# Altium footprint library TRANSFORMER.PcbLib: 1 footprints
Each footprint in its own frame and in the unit in brackets; x right, y up, seen from the top. Pads: shape width x height; smd on the part's side, far side on the other; paste and mask are expansions set on the pad; w line width, h text height; cw(c..) or ccw(c..) is an arc to the next point about the centre after c.
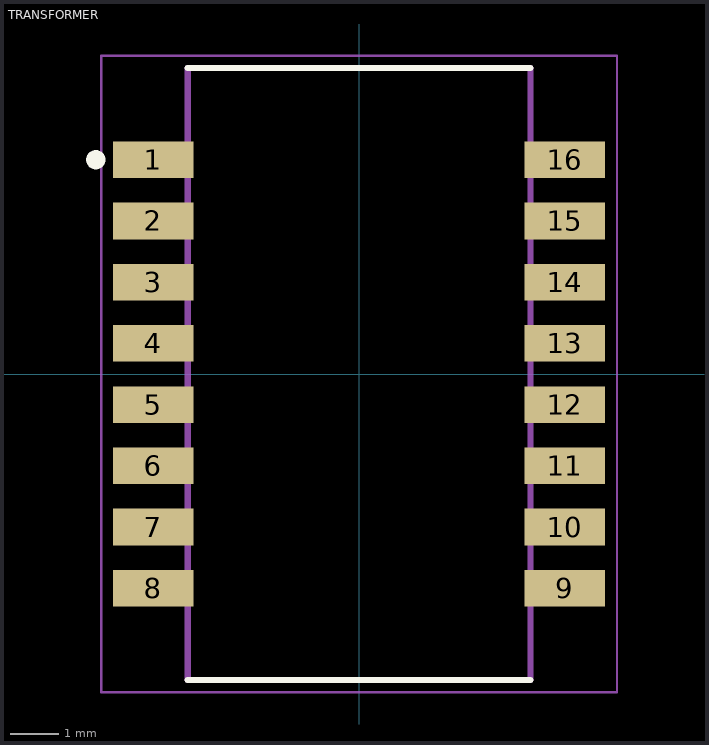
[diagram p0: the footprint, top view; thin cyan lines are the x and y axes]

## TRANSFORMER [mm]
pads (16):
  rect 1.67x0.76 smd: 1(-4.265,4.445) 2(-4.265,3.175) 3(-4.265,1.905) 4(-4.265,0.635) 5(-4.265,-0.635) 6(-4.265,-1.905) 7(-4.265,-3.175) 8(-4.265,-4.445) 9(4.265,-4.445) 10(4.265,-3.175) 11(4.265,-1.905) 12(4.265,-0.635) 13(4.265,0.635) 14(4.265,1.905) 15(4.265,3.175) 16(4.265,4.445)
Top Overlay:
  circle w0.2: c-5.461,4.445 r0.1
  lines w0.127: -3.555,-6.35 3.555,-6.35 ; -3.555,6.35 3.555,6.35
Mechanical 4:
  lines w0.127: -3.555,-6.35 -3.555,6.35 ; -3.555,-6.35 3.555,-6.35 ; -3.555,-6.35 -3.555,6.35 ; -3.555,-6.35 3.555,-6.35 ; -3.555,6.35 3.555,6.35 ; -3.555,6.35 3.555,6.35 ; 3.555,-6.35 3.555,6.35 ; 3.555,-6.35 3.555,6.35
Mechanical 15:
  lines w0.05: -5.35,-6.6 -5.35,6.6 5.35,6.6 5.35,-6.6 -5.35,-6.6